# Altium footprint library P-MOSFIT_IRF4905STRRPBF_Pcb.PcbLib: 1 footprints
Each footprint in its own frame and in the unit in brackets; x right, y up, seen from the top. Pads: shape width x height; smd on the part's side, far side on the other; paste and mask are expansions set on the pad; w line width, h text height; cw(c..) or ccw(c..) is an arc to the next point about the centre after c.
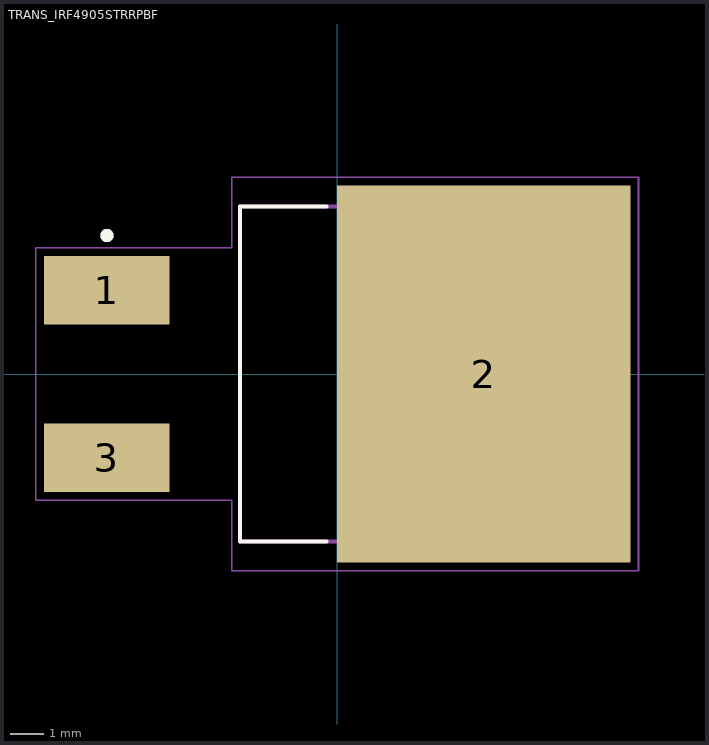
[diagram p0: the footprint, top view; thin cyan lines are the x and y axes]

## TRANS_IRF4905STRRPBF [mm]
height 4.83
pads (3):
  rect 3.81x2.08 smd: 1(-6.985,2.54) 3(-6.985,-2.54)
  rect 8.89x11.43 smd paste-7: 2(4.445,0)
Top Overlay:
  circle w0.2: c-6.985,4.2 r0.1
  lines w0.127: -0.32,-5.08 -2.95,-5.08 -2.95,5.08 -0.32,5.08
Top Paste:
  region: 6.215,0.305 4.905,0.305 4.905,1.605 6.215,1.605
  region: 3.985,0.305 2.675,0.305 2.675,1.605 3.985,1.605
  region: 1.755,0.305 0.445,0.305 0.445,1.605 1.755,1.605
  region: 8.445,0.305 7.135,0.305 7.135,1.605 8.445,1.605
  region: 6.215,2.215 4.905,2.215 4.905,3.515 6.215,3.515
  region: 3.985,2.215 2.675,2.215 2.675,3.515 3.985,3.515
  region: 1.755,2.215 0.445,2.215 0.445,3.515 1.755,3.515
  region: 8.445,2.215 7.135,2.215 7.135,3.515 8.445,3.515
  region: 6.215,4.125 4.905,4.125 4.905,5.425 6.215,5.425
  region: 3.985,4.125 2.675,4.125 2.675,5.425 3.985,5.425
  region: 1.755,4.125 0.445,4.125 0.445,5.425 1.755,5.425
  region: 8.445,4.125 7.135,4.125 7.135,5.425 8.445,5.425
  region: 6.215,-5.425 4.905,-5.425 4.905,-4.125 6.215,-4.125
  region: 3.985,-5.425 2.675,-5.425 2.675,-4.125 3.985,-4.125
  region: 1.755,-5.425 0.445,-5.425 0.445,-4.125 1.755,-4.125
  region: 8.445,-5.425 7.135,-5.425 7.135,-4.125 8.445,-4.125
  region: 6.215,-3.515 4.905,-3.515 4.905,-2.215 6.215,-2.215
  region: 3.985,-3.515 2.675,-3.515 2.675,-2.215 3.985,-2.215
  region: 1.755,-3.515 0.445,-3.515 0.445,-2.215 1.755,-2.215
  region: 8.445,-3.515 7.135,-3.515 7.135,-2.215 8.445,-2.215
  region: 6.215,-1.605 4.905,-1.605 4.905,-0.305 6.215,-0.305
  region: 3.985,-1.605 2.675,-1.605 2.675,-0.305 3.985,-0.305
  region: 1.755,-1.605 0.445,-1.605 0.445,-0.305 1.755,-0.305
  region: 8.445,-1.605 7.135,-1.605 7.135,-0.305 8.445,-0.305
Mechanical 13:
  circle w0.2: c-6.985,4.2 r0.1
  lines w0.127: -2.95,-5.08 6.13,-5.08 6.13,5.08 -2.95,5.08 -2.95,-5.08
Mechanical 15:
  lines w0.05: -9.14,-3.83 -3.2,-3.83 -3.2,-5.965 9.14,-5.965 9.14,5.965 -3.2,5.965 -3.2,3.83 -9.14,3.83 -9.14,-3.83
3D body "step_temp.STEP": height 4.83, standoff -0.25, extent -7.62,-5.08 7.62,5.08